# EAGLE library part A9415 (library robot-hand)
A4915 3-Phase MOSFET Driver The A4915 is designed for pulse width modulated (PWM) current control of 3-phase brushless DC motors. The A4915 is capable of high current gate drive for 6 all N-channel power MOSFETs. An internal charge pump ensures gate drive down to 7 V supply and provides limited gate drive down to 5 V. A bootstrap capacitor is used to generate a supply voltage greater than the source voltage of the high side MOSFET, required for N-channel MOSFETs. Details see: http://www.allegromicro.com/~/media/Files/Datasheets/A4915-Datasheet.ashx?la=en
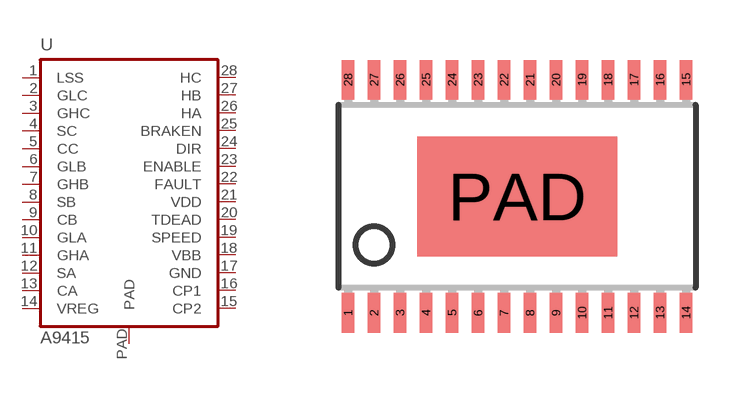
[diagram p4: symbol with the pads of TSSOP28; footprint TSSOP28]

Designator prefix -

## A9415  [TSSOP28]
1  LSS  in
2  GLC  out
3  GHC  out
4  SC  out
5  CC  out
6  GLB  out
7  GHB  out
8  SB  out
9  CB  out
10  GLA  out
11  GHA  out
12  SA  out
13  CA  out
14  VREG  pwr
15  CP2  pas
16  CP1  in
17  GND  pwr
18  VBB  pwr
19  SPEED  in
20  TDEAD  in
21  VDD  pwr
22  FAULT  out
23  ENABLE  in
24  DIR  in
25  BRAKEN
26  HA  in
27  HB  in
28  HC  in
PAD  PAD  pwr

## Footprint TSSOP28 (pad centres in mm)
smd 0.305 x 0.991: 1 -4.225,-2.918; 2 -3.575,-2.918; 3 -2.925,-2.918; 4 -2.275,-2.918; 5 -1.625,-2.918; 6 -0.975,-2.918; 7 -0.325,-2.918; 8 0.325,-2.918; 9 0.975,-2.918; 10 1.625,-2.918; 11 2.275,-2.918; 12 2.925,-2.918; 13 3.575,-2.918; 14 4.225,-2.918; 15 4.225,2.918; 16 3.575,2.918; 17 2.925,2.918; 18 2.275,2.918; 19 1.625,2.918; 20 0.975,2.918; 21 0.325,2.918; 22 -0.325,2.918; 23 -0.975,2.918; 24 -1.625,2.918; 25 -2.275,2.918; 26 -2.925,2.918; 27 -3.575,2.918; 28 -4.225,2.918
smd 5 x 3: PAD 0,0